# Altium schematic symbol library LED_RED_Green.Schlib: 1 symbol
Pins are listed as number, name and electrical type; pins without a type are passive.

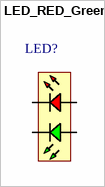
[diagram p0: symbol LED_RED_Green]

## LED_RED_Green
designator LED?, comment LED_BLU_RED  (value not drawn)
pins: 1 K, 2 A, 3 K, 4 A
1 alternate drawing of the same symbol